# EAGLE library part ZHR5-20-02-F-RA-TR (library NewSDR)
Samtec 20-pin High Speed ZIF FLEX Data Link Connector
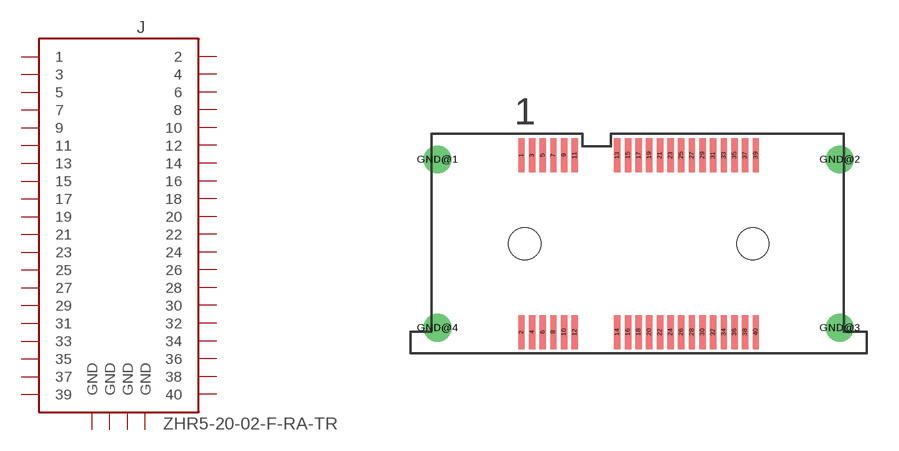
[diagram p163: symbol with the pads of ZHR5-20-02-F-RA-TR; footprint ZHR5-20-02-F-RA-TR]

Designator prefix J

## ZHR5-20-02-F-RA-TR  [ZHR5-20-02-F-RA-TR]
1  1  pas
2  2  pas
3  3  pas
4  4  pas
5  5  pas
6  6  pas
7  7  pas
8  8  pas
9  9  pas
10  10  pas
11  11  pas
12  12  pas
13  13  pas
14  14  pas
15  15  pas
16  16  pas
17  17  pas
18  18  pas
19  19  pas
20  20  pas
21  21  pas
22  22  pas
23  23  pas
24  24  pas
25  25  pas
26  26  pas
27  27  pas
28  28  pas
29  29  pas
30  30  pas
31  31  pas
32  32  pas
33  33  pas
34  34  pas
35  35  pas
36  36  pas
37  37  pas
38  38  pas
39  39  pas
40  40  pas
GND@1  GND  pwr
GND@2  GND  pwr
GND@3  GND  pwr
GND@4  GND  pwr

## Footprint ZHR5-20-02-F-RA-TR (pad centres in mm)
Samtec 20-pin High Speed ZIF FLEX Data Link Connector
smd 0.3 x 1.6: 1 -5.5,4.15; 2 -5.5,-4.15; 3 -5,4.15; 4 -5,-4.15; 5 -4.5,4.15; 6 -4.5,-4.15; 7 -4,4.15; 8 -4,-4.15; 9 -3.5,4.15; 10 -3.5,-4.15; 11 -3,4.15; 12 -3,-4.15; 13 -1,4.15; 14 -1,-4.15; 15 -0.5,4.15; 16 -0.5,-4.15; 17 0,4.15; 18 0,-4.15; 19 0.5,4.15; 20 0.5,-4.15; 21 1,4.15; 22 1,-4.15; 23 1.5,4.15; 24 1.5,-4.15; 25 2,4.15; 26 2,-4.15; 27 2.5,4.15; 28 2.5,-4.15; 29 3,4.15; 30 3,-4.15; 31 3.5,4.15; 32 3.5,-4.15; 33 4,4.15; 34 4,-4.15; 35 4.5,4.15; 36 4.5,-4.15; 37 5,4.15; 38 5,-4.15; 39 5.5,4.15; 40 5.5,-4.15
drill 0.8: GND@1 -9.45,3.95; GND@2 9.45,3.95; GND@3 9.45,-3.95; GND@4 -9.45,-3.95
hole 1.5 at -5.35,0
hole 1.5 at 5.35,0